# EAGLE library part 6PIN (library Connector-Header-Pin)
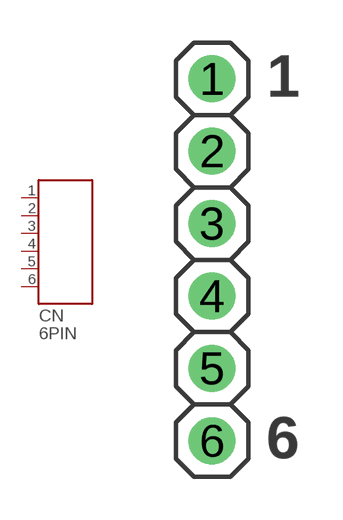
[diagram p1: symbol with the pads of 1*6(2.54PITCH); footprint 1*6(2.54PITCH)]

Designator prefix CN

## 6PIN2.54  [1*6(2.54PITCH)]
1  1
2  2
3  3
4  4
5  5
6  6

## Footprint 1*6(2.54PITCH) (pad centres in mm)
drill 1.1: 1 0,6.35; 2 0,3.81; 3 0,1.27; 4 0,-1.27; 5 0,-3.81; 6 0,-6.35